# Altium integrated library TI Amplifiers and Linear Difference Amplifier.IntLib: 154 symbols (part 5 of 5)
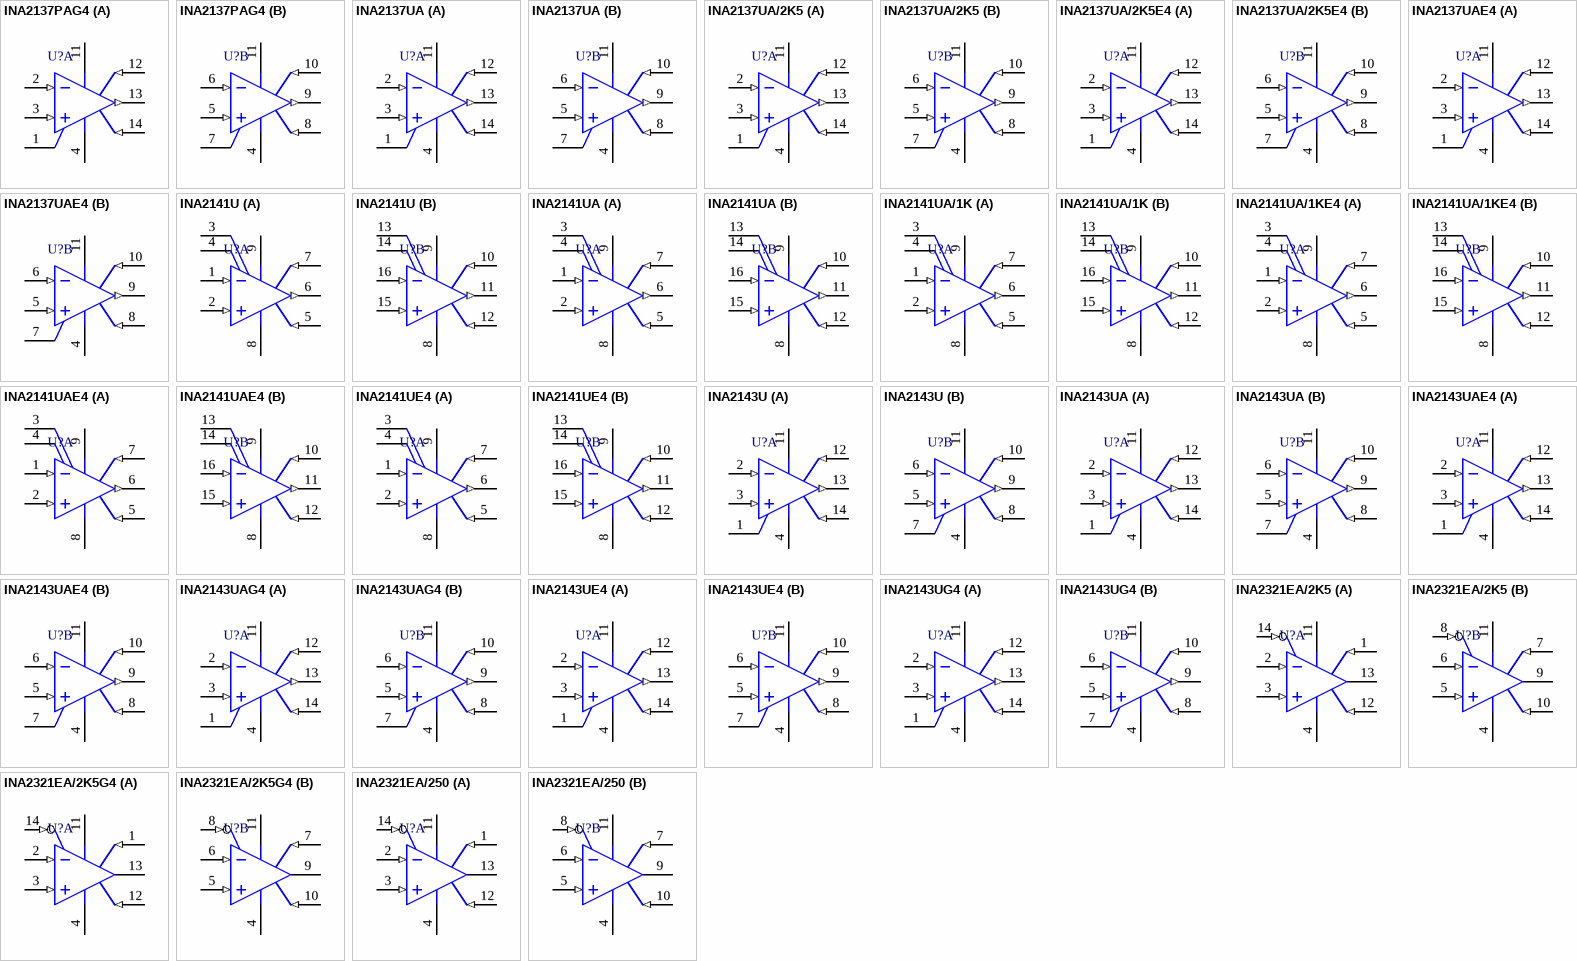
[diagram p9: symbols INA2137PAG4 to INA2321EA/250]

## INA2137PAG4
designator U?
Audio Differential Line Receivers, +/- 6 dB (G=1/2 or 2), -40 to 85 degC, 14-pin DIP (N14), Green (RoHS & no Sb/Br); Manufacturer: Texas Instruments; PartNumber: INA2137PAG4; CMRR(Min)(dB): 74; Gain(V/V): 0.5; Input Offset (+/-)(Max)(uV): 1000; Number of Channels: 2; Slew Rate(Typ)(V/us): 14; SubFamily: Difference Amplifier; Vs(Max)(V): 36; Vs(Min)(V): 8; DatasheetVersion: SBOS072; PackageVersion: 4040049/E, 12/2002; PackageReference: N14; PackageDescription: 14-Pin Plastic In-Line, Body 19.305 x 6.35 mm, Pitch 2.54 mm; Supplier 1: Digi-Key; Supplier Part Number 1: INA2137PAG4-ND; Supplier 2: Newark; Supplier Part Number 2: 18M2398; Supplier 3: Mouser; Supplier Part Number 3: 595-INA2137PAG4; Eco-Plan: Green (RoHS & no Sb/Br); Mounting Technology: Through Hole; Code_JEDEC: MS-001; ComponentLink1Description: Manufacturer URL; ComponentLink1URL: http://www.ti.com/; ComponentLink2Description: Datasheet; ComponentLink2URL: http://www.ti.com/general/docs/lit/getliterature.tsp?genericPartNumber=INA2137&fileType=pdf; ComponentLink3Description: Package Specification; ComponentLink3URL: http://www.ti.com/lit/ml/mpdi002c/mpdi002c.pdf
footprint TI-N14 (DIP, 14-Leads, Body 19.7x6.6mm, Pitch 2.54mm)
pins on every part: 4 V- (power), 11 V+ (power)
part A pins: 1 NC, 2 IN A- (in), 3 IN A+ (in), 12 SENSE A (in), 13 OUT A (out), 14 REF A (in)
part B pins: 5 IN B+ (in), 6 IN B- (in), 7 NC, 8 REF B (in), 9 OUT B (out), 10 SENSE B (in)

## INA2137UA
designator U?
Audio Differential Line Receivers, +/- 6 dB (G=1/2 or 2), -40 to 85 degC, 14-pin SOIC (D14), Green (RoHS & no Sb/Br); Manufacturer: Texas Instruments; PartNumber: INA2137UA; CMRR(Min)(dB): 74; Gain(V/V): 0.5; Input Offset (+/-)(Max)(uV): 1000; Number of Channels: 2; Slew Rate(Typ)(V/us): 14; SubFamily: Difference Amplifier; Vs(Max)(V): 36; Vs(Min)(V): 8; DatasheetVersion: SBOS072; PackageVersion: 4040047-5/M, 06/2011; PackageReference: D14; PackageDescription: 14-Pin Plastic Small Outline, Body 8.65 x 3.9 mm, Pitch 1.27 mm; Supplier 1: Digi-Key; Supplier Part Number 1: INA2137UA-ND; Supplier 2: Newark; Supplier Part Number 2: 35C1749; Supplier 3: Mouser; Supplier Part Number 3: 595-INA2137UA; Eco-Plan: Green (RoHS & no Sb/Br); Mounting Technology: Surface Mount; Code_JEDEC: MS-012; ComponentLink1Description: Manufacturer URL; ComponentLink1URL: http://www.ti.com/; ComponentLink2Description: Datasheet; ComponentLink2URL: http://www.ti.com/general/docs/lit/getliterature.tsp?genericPartNumber=INA2137&fileType=pdf; ComponentLink3Description: Package Specification; ComponentLink3URL: http://www.ti.com/lit/ml/mpds177g/mpds177g.pdf
footprint TI-D14_N (SOIC, 14-Leads, Body 8.75x4mm, Pitch 1.27mm, IPC Medium Density)
footprint TI-D14_L (SOIC, 14-Leads, Body 8.75x4mm, Pitch 1.27mm, IPC High Density)
footprint TI-D14_M (SOIC, 14-Leads, Body 8.75x4mm, Pitch 1.27mm, IPC Low Density)
pins on every part: 4 V- (power), 11 V+ (power)
part A pins: 1 NC, 2 IN A- (in), 3 IN A+ (in), 12 SENSE A (in), 13 OUT A (out), 14 REF A (in)
part B pins: 5 IN B+ (in), 6 IN B- (in), 7 NC, 8 REF B (in), 9 OUT B (out), 10 SENSE B (in)

## INA2137UA/2K5
designator U?
Audio Differential Line Receivers, +/- 6 dB (G=1/2 or 2), -40 to 85 degC, 14-pin SOIC (D14), Green (RoHS & no Sb/Br); Manufacturer: Texas Instruments; PartNumber: INA2137UA/2K5; CMRR(Min)(dB): 74; Gain(V/V): 0.5; Input Offset (+/-)(Max)(uV): 1000; Number of Channels: 2; Slew Rate(Typ)(V/us): 14; SubFamily: Difference Amplifier; Vs(Max)(V): 36; Vs(Min)(V): 8; DatasheetVersion: SBOS072; PackageVersion: 4040047-5/M, 06/2011; PackageReference: D14; PackageDescription: 14-Pin Plastic Small Outline, Body 8.65 x 3.9 mm, Pitch 1.27 mm; Supplier 1: Digi-Key; Supplier Part Number 1: 296-26071-2-ND; Supplier 2: Digi-Key; Supplier Part Number 2: 296-26071-1-ND; Supplier 3: Digi-Key; Supplier Part Number 3: 296-26071-6-ND; Supplier 4: Newark; Supplier Part Number 4: 74C9852; Supplier 5: Mouser; Supplier Part Number 5: 595-INA2137UA/2K5; Eco-Plan: Green (RoHS & no Sb/Br); Mounting Technology: Surface Mount; Code_JEDEC: MS-012; ComponentLink1Description: Manufacturer URL; ComponentLink1URL: http://www.ti.com/; ComponentLink2Description: Datasheet; ComponentLink2URL: http://www.ti.com/general/docs/lit/getliterature.tsp?genericPartNumber=INA2137&fileType=pdf; ComponentLink3Description: Package Specification; ComponentLink3URL: http://www.ti.com/lit/ml/mpds177g/mpds177g.pdf
footprint TI-D14_N (SOIC, 14-Leads, Body 8.75x4mm, Pitch 1.27mm, IPC Medium Density)
footprint TI-D14_L (SOIC, 14-Leads, Body 8.75x4mm, Pitch 1.27mm, IPC High Density)
footprint TI-D14_M (SOIC, 14-Leads, Body 8.75x4mm, Pitch 1.27mm, IPC Low Density)
pins on every part: 4 V- (power), 11 V+ (power)
part A pins: 1 NC, 2 IN A- (in), 3 IN A+ (in), 12 SENSE A (in), 13 OUT A (out), 14 REF A (in)
part B pins: 5 IN B+ (in), 6 IN B- (in), 7 NC, 8 REF B (in), 9 OUT B (out), 10 SENSE B (in)

## INA2137UA/2K5E4
designator U?
Audio Differential Line Receivers, +/- 6 dB (G=1/2 or 2), -40 to 85 degC, 14-pin SOIC (D14), Green (RoHS & no Sb/Br); Manufacturer: Texas Instruments; PartNumber: INA2137UA/2K5E4; CMRR(Min)(dB): 74; Gain(V/V): 0.5; Input Offset (+/-)(Max)(uV): 1000; Number of Channels: 2; Slew Rate(Typ)(V/us): 14; SubFamily: Difference Amplifier; Vs(Max)(V): 36; Vs(Min)(V): 8; DatasheetVersion: SBOS072; PackageVersion: 4040047-5/M, 06/2011; PackageReference: D14; PackageDescription: 14-Pin Plastic Small Outline, Body 8.65 x 3.9 mm, Pitch 1.27 mm; Supplier 1: Digi-Key; Supplier Part Number 1: INA2137UA/2K5E4-ND; Supplier 2: Newark; Supplier Part Number 2: 74K5328; Supplier 3: Mouser; Supplier Part Number 3: 595-INA2137UA/2K5E4; Eco-Plan: Green (RoHS & no Sb/Br); Mounting Technology: Surface Mount; Code_JEDEC: MS-012; ComponentLink1Description: Manufacturer URL; ComponentLink1URL: http://www.ti.com/; ComponentLink2Description: Datasheet; ComponentLink2URL: http://www.ti.com/general/docs/lit/getliterature.tsp?genericPartNumber=INA2137&fileType=pdf; ComponentLink3Description: Package Specification; ComponentLink3URL: http://www.ti.com/lit/ml/mpds177g/mpds177g.pdf
footprint TI-D14_N (SOIC, 14-Leads, Body 8.75x4mm, Pitch 1.27mm, IPC Medium Density)
footprint TI-D14_L (SOIC, 14-Leads, Body 8.75x4mm, Pitch 1.27mm, IPC High Density)
footprint TI-D14_M (SOIC, 14-Leads, Body 8.75x4mm, Pitch 1.27mm, IPC Low Density)
pins on every part: 4 V- (power), 11 V+ (power)
part A pins: 1 NC, 2 IN A- (in), 3 IN A+ (in), 12 SENSE A (in), 13 OUT A (out), 14 REF A (in)
part B pins: 5 IN B+ (in), 6 IN B- (in), 7 NC, 8 REF B (in), 9 OUT B (out), 10 SENSE B (in)

## INA2137UAE4
designator U?
Audio Differential Line Receivers, +/- 6 dB (G=1/2 or 2), -40 to 85 degC, 14-pin SOIC (D14), Green (RoHS & no Sb/Br); Manufacturer: Texas Instruments; PartNumber: INA2137UAE4; CMRR(Min)(dB): 74; Gain(V/V): 0.5; Input Offset (+/-)(Max)(uV): 1000; Number of Channels: 2; Slew Rate(Typ)(V/us): 14; SubFamily: Difference Amplifier; Vs(Max)(V): 36; Vs(Min)(V): 8; DatasheetVersion: SBOS072; PackageVersion: 4040047-5/M, 06/2011; PackageReference: D14; PackageDescription: 14-Pin Plastic Small Outline, Body 8.65 x 3.9 mm, Pitch 1.27 mm; Supplier 1: Digi-Key; Supplier Part Number 1: INA2137UAE4-ND; Supplier 2: Newark; Supplier Part Number 2: 28M6097; Supplier 3: Mouser; Supplier Part Number 3: 595-INA2137UAE4; Eco-Plan: Green (RoHS & no Sb/Br); Mounting Technology: Surface Mount; Code_JEDEC: MS-012; ComponentLink1Description: Manufacturer URL; ComponentLink1URL: http://www.ti.com/; ComponentLink2Description: Datasheet; ComponentLink2URL: http://www.ti.com/general/docs/lit/getliterature.tsp?genericPartNumber=INA2137&fileType=pdf; ComponentLink3Description: Package Specification; ComponentLink3URL: http://www.ti.com/lit/ml/mpds177g/mpds177g.pdf
footprint TI-D14_N (SOIC, 14-Leads, Body 8.75x4mm, Pitch 1.27mm, IPC Medium Density)
footprint TI-D14_L (SOIC, 14-Leads, Body 8.75x4mm, Pitch 1.27mm, IPC High Density)
footprint TI-D14_M (SOIC, 14-Leads, Body 8.75x4mm, Pitch 1.27mm, IPC Low Density)
pins on every part: 4 V- (power), 11 V+ (power)
part A pins: 1 NC, 2 IN A- (in), 3 IN A+ (in), 12 SENSE A (in), 13 OUT A (out), 14 REF A (in)
part B pins: 5 IN B+ (in), 6 IN B- (in), 7 NC, 8 REF B (in), 9 OUT B (out), 10 SENSE B (in)

## INA2141U
designator U?
Dual, Low Power, G = 10, 100 Instrumentation Amplifier, -40 to 125 degC, 16-pin SOIC (DW16), Green (RoHS & no Sb/Br); Manufacturer: Texas Instruments; PartNumber: INA2141U; CMRR(Min)(dB): 117; Dual Supply: TRUE; Gain(V/V): 10, 100; Input Offset (+/-)(Max)(uV): 50; Number of Channels: 2; Slew Rate(Typ)(V/us): 4; SubFamily: Difference Amplifier; Vs(Max)(V): 36; Vs(Min)(V): 4.5; DatasheetVersion: SBOS036; PackageVersion: 4040000-2/G, 01/2011; PackageReference: DW16; PackageDescription: 16-Pin Plastic Small Outline, Body 10.30 x 7.50 mm, Pitch 1.27 mm; Supplier 1: Digi-Key; Supplier Part Number 1: INA2141U-ND; Supplier 2: Newark; Supplier Part Number 2: 74C9853; Supplier 3: Mouser; Supplier Part Number 3: 595-INA2141U; Eco-Plan: Green (RoHS & no Sb/Br); Mounting Technology: Surface Mount; Code_JEDEC: MS-013; ComponentLink1Description: Manufacturer URL; ComponentLink1URL: http://www.ti.com/; ComponentLink2Description: Datasheet; ComponentLink2URL: http://www.ti.com/general/docs/lit/getliterature.tsp?genericPartNumber=INA2141&fileType=pdf; ComponentLink3Description: Package Specification; ComponentLink3URL: http://www.ti.com/litv/pdf/msoi003g
footprint TI-DW16_N (SOIC, 16-Leads, Body 10.5x7.6mm, Pitch 1.27mm, IPC Medium Density)
footprint TI-DW16_L (SOIC, 16-Leads, Body 10.5x7.6mm, Pitch 1.27mm, IPC High Density)
footprint TI-DW16_M (SOIC, 16-Leads, Body 10.5x7.6mm, Pitch 1.27mm, IPC Low Density)
pins on every part: 8 V- (power), 9 V+ (power)
part A pins: 1 VINA- (in), 2 VINA+ (in), 3 JA, 4 JA, 5 REFA (in), 6 VOA (out), 7 SENSEA (in)
part B pins: 10 SENSEB (in), 11 VOB (out), 12 REFB (in), 13 JB, 14 JB, 15 VINB+ (in), 16 VINB- (in)

## INA2141UA
designator U?
Dual, Low Power, G = 10, 100 Instrumentation Amplifier, -40 to 125 degC, 16-pin SOIC (DW16), Green (RoHS & no Sb/Br); Manufacturer: Texas Instruments; PartNumber: INA2141UA; CMRR(Min)(dB): 110; Dual Supply: TRUE; Gain(V/V): 10, 100; Input Offset (+/-)(Max)(uV): 125; Number of Channels: 2; Slew Rate(Typ)(V/us): 4; SubFamily: Difference Amplifier; Vs(Max)(V): 36; Vs(Min)(V): 4.5; DatasheetVersion: SBOS036; PackageVersion: 4040000-2/G, 01/2011; PackageReference: DW16; PackageDescription: 16-Pin Plastic Small Outline, Body 10.30 x 7.50 mm, Pitch 1.27 mm; Supplier 1: Digi-Key; Supplier Part Number 1: INA2141UA-ND; Supplier 2: Mouser; Supplier Part Number 2: 595-INA2141UA; Eco-Plan: Green (RoHS & no Sb/Br); Mounting Technology: Surface Mount; Code_JEDEC: MS-013; ComponentLink1Description: Manufacturer URL; ComponentLink1URL: http://www.ti.com/; ComponentLink2Description: Datasheet; ComponentLink2URL: http://www.ti.com/general/docs/lit/getliterature.tsp?genericPartNumber=INA2141&fileType=pdf; ComponentLink3Description: Package Specification; ComponentLink3URL: http://www.ti.com/litv/pdf/msoi003g
footprint TI-DW16_N (SOIC, 16-Leads, Body 10.5x7.6mm, Pitch 1.27mm, IPC Medium Density)
footprint TI-DW16_L (SOIC, 16-Leads, Body 10.5x7.6mm, Pitch 1.27mm, IPC High Density)
footprint TI-DW16_M (SOIC, 16-Leads, Body 10.5x7.6mm, Pitch 1.27mm, IPC Low Density)
pins on every part: 8 V- (power), 9 V+ (power)
part A pins: 1 VINA- (in), 2 VINA+ (in), 3 JA, 4 JA, 5 REFA (in), 6 VOA (out), 7 SENSEA (in)
part B pins: 10 SENSEB (in), 11 VOB (out), 12 REFB (in), 13 JB, 14 JB, 15 VINB+ (in), 16 VINB- (in)

## INA2141UA/1K
designator U?
Dual, Low Power, G = 10, 100 Instrumentation Amplifier, -40 to 125 degC, 16-pin SOIC (DW16), Green (RoHS & no Sb/Br); Manufacturer: Texas Instruments; PartNumber: INA2141UA/1K; CMRR(Min)(dB): 110; Dual Supply: TRUE; Gain(V/V): 10, 100; Input Offset (+/-)(Max)(uV): 125; Number of Channels: 2; Slew Rate(Typ)(V/us): 4; SubFamily: Difference Amplifier; Vs(Max)(V): 36; Vs(Min)(V): 4.5; DatasheetVersion: SBOS036; PackageVersion: 4040000-2/G, 01/2011; PackageReference: DW16; PackageDescription: 16-Pin Plastic Small Outline, Body 10.30 x 7.50 mm, Pitch 1.27 mm; Supplier 1: Digi-Key; Supplier Part Number 1: INA2141UA/1K-ND; Supplier 2: Mouser; Supplier Part Number 2: 595-INA2141UA/1K; Eco-Plan: Green (RoHS & no Sb/Br); Mounting Technology: Surface Mount; Code_JEDEC: MS-013; ComponentLink1Description: Manufacturer URL; ComponentLink1URL: http://www.ti.com/; ComponentLink2Description: Datasheet; ComponentLink2URL: http://www.ti.com/general/docs/lit/getliterature.tsp?genericPartNumber=INA2141&fileType=pdf; ComponentLink3Description: Package Specification; ComponentLink3URL: http://www.ti.com/litv/pdf/msoi003g
footprint TI-DW16_N (SOIC, 16-Leads, Body 10.5x7.6mm, Pitch 1.27mm, IPC Medium Density)
footprint TI-DW16_L (SOIC, 16-Leads, Body 10.5x7.6mm, Pitch 1.27mm, IPC High Density)
footprint TI-DW16_M (SOIC, 16-Leads, Body 10.5x7.6mm, Pitch 1.27mm, IPC Low Density)
pins on every part: 8 V- (power), 9 V+ (power)
part A pins: 1 VINA- (in), 2 VINA+ (in), 3 JA, 4 JA, 5 REFA (in), 6 VOA (out), 7 SENSEA (in)
part B pins: 10 SENSEB (in), 11 VOB (out), 12 REFB (in), 13 JB, 14 JB, 15 VINB+ (in), 16 VINB- (in)

## INA2141UA/1KE4
designator U?
Dual, Low Power, G = 10, 100 Instrumentation Amplifier, -40 to 125 degC, 16-pin SOIC (DW16), Green (RoHS & no Sb/Br); Manufacturer: Texas Instruments; PartNumber: INA2141UA/1KE4; CMRR(Min)(dB): 110; Dual Supply: TRUE; Gain(V/V): 10, 100; Input Offset (+/-)(Max)(uV): 125; Number of Channels: 2; Slew Rate(Typ)(V/us): 4; SubFamily: Difference Amplifier; Vs(Max)(V): 36; Vs(Min)(V): 4.5; DatasheetVersion: SBOS036; PackageVersion: 4040000-2/G, 01/2011; PackageReference: DW16; PackageDescription: 16-Pin Plastic Small Outline, Body 10.30 x 7.50 mm, Pitch 1.27 mm; Supplier 1: Digi-Key; Supplier Part Number 1: INA2141UA/1KE4-ND; Supplier 2: Mouser; Supplier Part Number 2: 595-INA2141UA/1KE4; Eco-Plan: Green (RoHS & no Sb/Br); Mounting Technology: Surface Mount; Code_JEDEC: MS-013; ComponentLink1Description: Manufacturer URL; ComponentLink1URL: http://www.ti.com/; ComponentLink2Description: Datasheet; ComponentLink2URL: http://www.ti.com/general/docs/lit/getliterature.tsp?genericPartNumber=INA2141&fileType=pdf; ComponentLink3Description: Package Specification; ComponentLink3URL: http://www.ti.com/litv/pdf/msoi003g
footprint TI-DW16_N (SOIC, 16-Leads, Body 10.5x7.6mm, Pitch 1.27mm, IPC Medium Density)
footprint TI-DW16_L (SOIC, 16-Leads, Body 10.5x7.6mm, Pitch 1.27mm, IPC High Density)
footprint TI-DW16_M (SOIC, 16-Leads, Body 10.5x7.6mm, Pitch 1.27mm, IPC Low Density)
pins on every part: 8 V- (power), 9 V+ (power)
part A pins: 1 VINA- (in), 2 VINA+ (in), 3 JA, 4 JA, 5 REFA (in), 6 VOA (out), 7 SENSEA (in)
part B pins: 10 SENSEB (in), 11 VOB (out), 12 REFB (in), 13 JB, 14 JB, 15 VINB+ (in), 16 VINB- (in)

## INA2141UAE4
designator U?
Dual, Low Power, G = 10, 100 Instrumentation Amplifier, -40 to 125 degC, 16-pin SOIC (DW16), Green (RoHS & no Sb/Br); Manufacturer: Texas Instruments; PartNumber: INA2141UAE4; CMRR(Min)(dB): 110; Dual Supply: TRUE; Gain(V/V): 10, 100; Input Offset (+/-)(Max)(uV): 125; Number of Channels: 2; Slew Rate(Typ)(V/us): 4; SubFamily: Difference Amplifier; Vs(Max)(V): 36; Vs(Min)(V): 4.5; DatasheetVersion: SBOS036; PackageVersion: 4040000-2/G, 01/2011; PackageReference: DW16; PackageDescription: 16-Pin Plastic Small Outline, Body 10.30 x 7.50 mm, Pitch 1.27 mm; Supplier 1: Digi-Key; Supplier Part Number 1: INA2141UAE4-ND; Supplier 2: Mouser; Supplier Part Number 2: 595-INA2141UAE4; Eco-Plan: Green (RoHS & no Sb/Br); Mounting Technology: Surface Mount; Code_JEDEC: MS-013; ComponentLink1Description: Manufacturer URL; ComponentLink1URL: http://www.ti.com/; ComponentLink2Description: Datasheet; ComponentLink2URL: http://www.ti.com/general/docs/lit/getliterature.tsp?genericPartNumber=INA2141&fileType=pdf; ComponentLink3Description: Package Specification; ComponentLink3URL: http://www.ti.com/litv/pdf/msoi003g
footprint TI-DW16_N (SOIC, 16-Leads, Body 10.5x7.6mm, Pitch 1.27mm, IPC Medium Density)
footprint TI-DW16_L (SOIC, 16-Leads, Body 10.5x7.6mm, Pitch 1.27mm, IPC High Density)
footprint TI-DW16_M (SOIC, 16-Leads, Body 10.5x7.6mm, Pitch 1.27mm, IPC Low Density)
pins on every part: 8 V- (power), 9 V+ (power)
part A pins: 1 VINA- (in), 2 VINA+ (in), 3 JA, 4 JA, 5 REFA (in), 6 VOA (out), 7 SENSEA (in)
part B pins: 10 SENSEB (in), 11 VOB (out), 12 REFB (in), 13 JB, 14 JB, 15 VINB+ (in), 16 VINB- (in)

## INA2141UE4
designator U?
Dual, Low Power, G = 10, 100 Instrumentation Amplifier, -40 to 125 degC, 16-pin SOIC (DW16), Green (RoHS & no Sb/Br); Manufacturer: Texas Instruments; PartNumber: INA2141UE4; CMRR(Min)(dB): 117; Dual Supply: TRUE; Gain(V/V): 10, 100; Input Offset (+/-)(Max)(uV): 50; Number of Channels: 2; Slew Rate(Typ)(V/us): 4; SubFamily: Difference Amplifier; Vs(Max)(V): 36; Vs(Min)(V): 4.5; DatasheetVersion: SBOS036; PackageVersion: 4040000-2/G, 01/2011; PackageReference: DW16; PackageDescription: 16-Pin Plastic Small Outline, Body 10.30 x 7.50 mm, Pitch 1.27 mm; Supplier 1: Digi-Key; Supplier Part Number 1: INA2141UE4-ND; Supplier 2: Newark; Supplier Part Number 2: 28M6100; Supplier 3: Mouser; Supplier Part Number 3: 595-INA2141UE4; Eco-Plan: Green (RoHS & no Sb/Br); Mounting Technology: Surface Mount; Code_JEDEC: MS-013; ComponentLink1Description: Manufacturer URL; ComponentLink1URL: http://www.ti.com/; ComponentLink2Description: Datasheet; ComponentLink2URL: http://www.ti.com/general/docs/lit/getliterature.tsp?genericPartNumber=INA2141&fileType=pdf; ComponentLink3Description: Package Specification; ComponentLink3URL: http://www.ti.com/litv/pdf/msoi003g
footprint TI-DW16_N (SOIC, 16-Leads, Body 10.5x7.6mm, Pitch 1.27mm, IPC Medium Density)
footprint TI-DW16_L (SOIC, 16-Leads, Body 10.5x7.6mm, Pitch 1.27mm, IPC High Density)
footprint TI-DW16_M (SOIC, 16-Leads, Body 10.5x7.6mm, Pitch 1.27mm, IPC Low Density)
pins on every part: 8 V- (power), 9 V+ (power)
part A pins: 1 VINA- (in), 2 VINA+ (in), 3 JA, 4 JA, 5 REFA (in), 6 VOA (out), 7 SENSEA (in)
part B pins: 10 SENSEB (in), 11 VOB (out), 12 REFB (in), 13 JB, 14 JB, 15 VINB+ (in), 16 VINB- (in)

## INA2143U
designator U?
High-Speed, Precision, G = 10 or G = 0.1 Difference Amplifier, -40 to 85 degC, 14-pin SOIC (D14), Green (RoHS & no Sb/Br); Manufacturer: Texas Instruments; PartNumber: INA2143U; CMRR(Min)(dB): 86; Gain(V/V): 10; Input Offset (+/-)(Max)(uV): 250; Number of Channels: 2; Slew Rate(Typ)(V/us): 5; Vs(Max)(V): 36; Vs(Min)(V): 4.5; DatasheetVersion: SBOS116; PackageVersion: 4040047-5/M, 06/2011; PackageReference: D14; PackageDescription: 14-Pin Plastic Small Outline, Body 8.65 x 3.9 mm, Pitch 1.27 mm; Supplier 1: Digi-Key; Supplier Part Number 1: INA2143U-ND; Supplier 2: Newark; Supplier Part Number 2: 74C9855; Supplier 3: Mouser; Supplier Part Number 3: 595-INA2143U; Eco-Plan: Green (RoHS & no Sb/Br); SubFamily: Difference Amplifier; Mounting Technology: Surface Mount; Code_JEDEC: MS-012; ComponentLink1Description: Manufacturer URL; ComponentLink1URL: http://www.ti.com/; ComponentLink2Description: Datasheet; ComponentLink2URL: http://www.ti.com/general/docs/lit/getliterature.tsp?genericPartNumber=INA2143&fileType=pdf; ComponentLink3Description: Package Specification; ComponentLink3URL: http://www.ti.com/lit/ml/mpds177g/mpds177g.pdf
footprint TI-D14_N (SOIC, 14-Leads, Body 8.75x4mm, Pitch 1.27mm, IPC Medium Density)
footprint TI-D14_L (SOIC, 14-Leads, Body 8.75x4mm, Pitch 1.27mm, IPC High Density)
footprint TI-D14_M (SOIC, 14-Leads, Body 8.75x4mm, Pitch 1.27mm, IPC Low Density)
pins on every part: 4 V- (power), 11 V+ (power)
part A pins: 1 NC, 2 IN A- (in), 3 IN A+ (in), 12 SENSE A (in), 13 OUT A (out), 14 REF A (in)
part B pins: 5 IN B+ (in), 6 IN B- (in), 7 NC, 8 REF B (in), 9 OUT B (out), 10 SENSE B (in)

## INA2143UA
designator U?
High-Speed, Precision, G = 10 or G = 0.1 Difference Amplifier, -40 to 85 degC, 14-pin SOIC (D14), Green (RoHS & no Sb/Br); Manufacturer: Texas Instruments; PartNumber: INA2143UA; CMRR(Min)(dB): 80; Gain(V/V): 10; Input Offset (+/-)(Max)(uV): 500; Number of Channels: 2; Slew Rate(Typ)(V/us): 5; Vs(Max)(V): 36; Vs(Min)(V): 4.5; DatasheetVersion: SBOS116; PackageVersion: 4040047-5/M, 06/2011; PackageReference: D14; PackageDescription: 14-Pin Plastic Small Outline, Body 8.65 x 3.9 mm, Pitch 1.27 mm; Supplier 1: Digi-Key; Supplier Part Number 1: INA2143UA-ND; Supplier 2: Newark; Supplier Part Number 2: 74C9857; Supplier 3: Mouser; Supplier Part Number 3: 595-INA2143UA; Eco-Plan: Green (RoHS & no Sb/Br); SubFamily: Difference Amplifier; Mounting Technology: Surface Mount; Code_JEDEC: MS-012; ComponentLink1Description: Manufacturer URL; ComponentLink1URL: http://www.ti.com/; ComponentLink2Description: Datasheet; ComponentLink2URL: http://www.ti.com/general/docs/lit/getliterature.tsp?genericPartNumber=INA2143&fileType=pdf; ComponentLink3Description: Package Specification; ComponentLink3URL: http://www.ti.com/lit/ml/mpds177g/mpds177g.pdf
footprint TI-D14_N (SOIC, 14-Leads, Body 8.75x4mm, Pitch 1.27mm, IPC Medium Density)
footprint TI-D14_L (SOIC, 14-Leads, Body 8.75x4mm, Pitch 1.27mm, IPC High Density)
footprint TI-D14_M (SOIC, 14-Leads, Body 8.75x4mm, Pitch 1.27mm, IPC Low Density)
pins on every part: 4 V- (power), 11 V+ (power)
part A pins: 1 NC, 2 IN A- (in), 3 IN A+ (in), 12 SENSE A (in), 13 OUT A (out), 14 REF A (in)
part B pins: 5 IN B+ (in), 6 IN B- (in), 7 NC, 8 REF B (in), 9 OUT B (out), 10 SENSE B (in)

## INA2143UAE4
designator U?
High-Speed, Precision, G = 10 or G = 0.1 Difference Amplifier, -40 to 85 degC, 14-pin SOIC (D14), Green (RoHS & no Sb/Br); Manufacturer: Texas Instruments; PartNumber: INA2143UAE4; CMRR(Min)(dB): 80; Gain(V/V): 10; Input Offset (+/-)(Max)(uV): 500; Number of Channels: 2; Slew Rate(Typ)(V/us): 5; Vs(Max)(V): 36; Vs(Min)(V): 4.5; DatasheetVersion: SBOS116; PackageVersion: 4040047-5/M, 06/2011; PackageReference: D14; PackageDescription: 14-Pin Plastic Small Outline, Body 8.65 x 3.9 mm, Pitch 1.27 mm; Supplier 1: Digi-Key; Supplier Part Number 1: INA2143UAE4-ND; Supplier 2: Newark; Supplier Part Number 2: 61K0051; Supplier 3: Mouser; Supplier Part Number 3: 595-INA2143UAE4; Eco-Plan: Green (RoHS & no Sb/Br); SubFamily: Difference Amplifier; Mounting Technology: Surface Mount; Code_JEDEC: MS-012; ComponentLink1Description: Manufacturer URL; ComponentLink1URL: http://www.ti.com/; ComponentLink2Description: Datasheet; ComponentLink2URL: http://www.ti.com/general/docs/lit/getliterature.tsp?genericPartNumber=INA2143&fileType=pdf; ComponentLink3Description: Package Specification; ComponentLink3URL: http://www.ti.com/lit/ml/mpds177g/mpds177g.pdf
footprint TI-D14_N (SOIC, 14-Leads, Body 8.75x4mm, Pitch 1.27mm, IPC Medium Density)
footprint TI-D14_L (SOIC, 14-Leads, Body 8.75x4mm, Pitch 1.27mm, IPC High Density)
footprint TI-D14_M (SOIC, 14-Leads, Body 8.75x4mm, Pitch 1.27mm, IPC Low Density)
pins on every part: 4 V- (power), 11 V+ (power)
part A pins: 1 NC, 2 IN A- (in), 3 IN A+ (in), 12 SENSE A (in), 13 OUT A (out), 14 REF A (in)
part B pins: 5 IN B+ (in), 6 IN B- (in), 7 NC, 8 REF B (in), 9 OUT B (out), 10 SENSE B (in)

## INA2143UAG4
designator U?
High-Speed, Precision, G = 10 or G = 0.1 Difference Amplifier, -40 to 85 degC, 14-pin SOIC (D14), Green (RoHS & no Sb/Br); Manufacturer: Texas Instruments; PartNumber: INA2143UAG4; CMRR(Min)(dB): 80; Gain(V/V): 10; Input Offset (+/-)(Max)(uV): 500; Number of Channels: 2; Slew Rate(Typ)(V/us): 5; Vs(Max)(V): 36; Vs(Min)(V): 4.5; DatasheetVersion: SBOS116; PackageVersion: 4040047-5/M, 06/2011; PackageReference: D14; PackageDescription: 14-Pin Plastic Small Outline, Body 8.65 x 3.9 mm, Pitch 1.27 mm; Supplier 1: Digi-Key; Supplier Part Number 1: INA2143UAG4-ND; Supplier 2: Mouser; Supplier Part Number 2: 595-INA2143UAG4; Eco-Plan: Green (RoHS & no Sb/Br); SubFamily: Difference Amplifier; Mounting Technology: Surface Mount; Code_JEDEC: MS-012; ComponentLink1Description: Manufacturer URL; ComponentLink1URL: http://www.ti.com/; ComponentLink2Description: Datasheet; ComponentLink2URL: http://www.ti.com/general/docs/lit/getliterature.tsp?genericPartNumber=INA2143&fileType=pdf; ComponentLink3Description: Package Specification; ComponentLink3URL: http://www.ti.com/lit/ml/mpds177g/mpds177g.pdf
footprint TI-D14_N (SOIC, 14-Leads, Body 8.75x4mm, Pitch 1.27mm, IPC Medium Density)
footprint TI-D14_L (SOIC, 14-Leads, Body 8.75x4mm, Pitch 1.27mm, IPC High Density)
footprint TI-D14_M (SOIC, 14-Leads, Body 8.75x4mm, Pitch 1.27mm, IPC Low Density)
pins on every part: 4 V- (power), 11 V+ (power)
part A pins: 1 NC, 2 IN A- (in), 3 IN A+ (in), 12 SENSE A (in), 13 OUT A (out), 14 REF A (in)
part B pins: 5 IN B+ (in), 6 IN B- (in), 7 NC, 8 REF B (in), 9 OUT B (out), 10 SENSE B (in)

## INA2143UE4
designator U?
High-Speed, Precision, G = 10 or G = 0.1 Difference Amplifier, -40 to 85 degC, 14-pin SOIC (D14), Green (RoHS & no Sb/Br); Manufacturer: Texas Instruments; PartNumber: INA2143UE4; CMRR(Min)(dB): 86; Gain(V/V): 10; Input Offset (+/-)(Max)(uV): 250; Number of Channels: 2; Slew Rate(Typ)(V/us): 5; Vs(Max)(V): 36; Vs(Min)(V): 4.5; DatasheetVersion: SBOS116; PackageVersion: 4040047-5/M, 06/2011; PackageReference: D14; PackageDescription: 14-Pin Plastic Small Outline, Body 8.65 x 3.9 mm, Pitch 1.27 mm; Supplier 1: Digi-Key; Supplier Part Number 1: INA2143UE4-ND; Supplier 2: Newark; Supplier Part Number 2: 61K0052; Supplier 3: Mouser; Supplier Part Number 3: 595-INA2143UE4; Eco-Plan: Green (RoHS & no Sb/Br); SubFamily: Difference Amplifier; Mounting Technology: Surface Mount; Code_JEDEC: MS-012; ComponentLink1Description: Manufacturer URL; ComponentLink1URL: http://www.ti.com/; ComponentLink2Description: Datasheet; ComponentLink2URL: http://www.ti.com/general/docs/lit/getliterature.tsp?genericPartNumber=INA2143&fileType=pdf; ComponentLink3Description: Package Specification; ComponentLink3URL: http://www.ti.com/lit/ml/mpds177g/mpds177g.pdf
footprint TI-D14_N (SOIC, 14-Leads, Body 8.75x4mm, Pitch 1.27mm, IPC Medium Density)
footprint TI-D14_L (SOIC, 14-Leads, Body 8.75x4mm, Pitch 1.27mm, IPC High Density)
footprint TI-D14_M (SOIC, 14-Leads, Body 8.75x4mm, Pitch 1.27mm, IPC Low Density)
pins on every part: 4 V- (power), 11 V+ (power)
part A pins: 1 NC, 2 IN A- (in), 3 IN A+ (in), 12 SENSE A (in), 13 OUT A (out), 14 REF A (in)
part B pins: 5 IN B+ (in), 6 IN B- (in), 7 NC, 8 REF B (in), 9 OUT B (out), 10 SENSE B (in)

## INA2143UG4
designator U?
High-Speed, Precision, G = 10 or G = 0.1 Difference Amplifier, -40 to 85 degC, 14-pin SOIC (D14), Green (RoHS & no Sb/Br); Manufacturer: Texas Instruments; PartNumber: INA2143UG4; CMRR(Min)(dB): 86; Gain(V/V): 10; Input Offset (+/-)(Max)(uV): 250; Number of Channels: 2; Slew Rate(Typ)(V/us): 5; Vs(Max)(V): 36; Vs(Min)(V): 4.5; DatasheetVersion: SBOS116; PackageVersion: 4040047-5/M, 06/2011; PackageReference: D14; PackageDescription: 14-Pin Plastic Small Outline, Body 8.65 x 3.9 mm, Pitch 1.27 mm; Supplier 1: Digi-Key; Supplier Part Number 1: INA2143UG4-ND; Supplier 2: Mouser; Supplier Part Number 2: 595-INA2143UG4; Eco-Plan: Green (RoHS & no Sb/Br); SubFamily: Difference Amplifier; Mounting Technology: Surface Mount; Code_JEDEC: MS-012; ComponentLink1Description: Manufacturer URL; ComponentLink1URL: http://www.ti.com/; ComponentLink2Description: Datasheet; ComponentLink2URL: http://www.ti.com/general/docs/lit/getliterature.tsp?genericPartNumber=INA2143&fileType=pdf; ComponentLink3Description: Package Specification; ComponentLink3URL: http://www.ti.com/lit/ml/mpds177g/mpds177g.pdf
footprint TI-D14_N (SOIC, 14-Leads, Body 8.75x4mm, Pitch 1.27mm, IPC Medium Density)
footprint TI-D14_L (SOIC, 14-Leads, Body 8.75x4mm, Pitch 1.27mm, IPC High Density)
footprint TI-D14_M (SOIC, 14-Leads, Body 8.75x4mm, Pitch 1.27mm, IPC Low Density)
pins on every part: 4 V- (power), 11 V+ (power)
part A pins: 1 NC, 2 IN A- (in), 3 IN A+ (in), 12 SENSE A (in), 13 OUT A (out), 14 REF A (in)
part B pins: 5 IN B+ (in), 6 IN B- (in), 7 NC, 8 REF B (in), 9 OUT B (out), 10 SENSE B (in)

## INA2321EA/2K5
designator U?
Micropower Single-Supply CMOS Instrumentation Amplifier, -55 to 125 degC, 14-pin SOP (PW14), Green (RoHS & no Sb/Br); Manufacturer: Texas Instruments; PartNumber: INA2321EA/2K5; CMRR(Min)(dB): 80; Gain(V/V): 5 to 1000; Input Offset (+/-)(Max)(uV): 1000; Number of Channels: 2; Slew Rate(Typ)(V/us): 0.4; SubFamily: Difference Amplifier; Vs(Max)(V): 5.5; Vs(Min)(V): 2.7; DatasheetVersion: SBOS168D; PackageVersion: 4040064-3/G, 02/2011; PackageReference: PW14; PackageDescription: 14-Pin Plastic Small Outline, Body 5 x 4.4 mm, Pitch 0.65 mm; Supplier 1: Digi-Key; Supplier Part Number 1: INA2321EA/2K5-ND; Supplier 2: Newark; Supplier Part Number 2: 74C9860; Supplier 3: Mouser; Supplier Part Number 3: 595-INA2321EA/2K5; Eco-Plan: Green (RoHS & no Sb/Br); Mounting Technology: Surface Mount; Code_JEDEC: MO-153; ComponentLink1Description: Manufacturer URL; ComponentLink1URL: http://www.ti.com/; ComponentLink2Description: Datasheet; ComponentLink2URL: http://www.ti.com/general/docs/lit/getliterature.tsp?genericPartNumber=INA2321&fileType=pdf; ComponentLink3Description: Package Specification; ComponentLink3URL: http://www.ti.com/litv/pdf/mpds360
footprint TI-PW14_N (SOP, 14-Leads, Body 5.1x4.5mm, Pitch 0.65mm, IPC Medium Density)
footprint TI-PW14_L (SOP, 14-Leads, Body 5.1x4.5mm, Pitch 0.65mm, IPC High Density)
footprint TI-PW14_M (SOP, 14-Leads, Body 5.1x4.5mm, Pitch 0.65mm, IPC Low Density)
pins on every part: 4 V- (power), 11 V+ (power)
part A pins: 1 RGA (in), 2 VINA- (in), 3 VINA+ (in), 12 REFA (in), 13 VOUTA (hiz), 14 SHUTDOWN A (in)
part B pins: 5 VINB+ (in), 6 VINB- (in), 7 RGB (in), 8 SHUTDOWN B (in), 9 VOUTB (hiz), 10 REFB (in)

## INA2321EA/2K5G4
designator U?
Micropower Single-Supply CMOS Instrumentation Amplifier, -55 to 125 degC, 14-pin SOP (PW14), Green (RoHS & no Sb/Br); Manufacturer: Texas Instruments; PartNumber: INA2321EA/2K5G4; CMRR(Min)(dB): 80; Gain(V/V): 5 to 1000; Input Offset (+/-)(Max)(uV): 1000; Number of Channels: 2; Slew Rate(Typ)(V/us): 0.4; SubFamily: Difference Amplifier; Vs(Max)(V): 5.5; Vs(Min)(V): 2.7; DatasheetVersion: SBOS168D; PackageVersion: 4040064-3/G, 02/2011; PackageReference: PW14; PackageDescription: 14-Pin Plastic Small Outline, Body 5 x 4.4 mm, Pitch 0.65 mm; Supplier 1: Digi-Key; Supplier Part Number 1: INA2321EA/2K5G4-ND; Supplier 2: Newark; Supplier Part Number 2: 33K5164; Supplier 3: Mouser; Supplier Part Number 3: 595-INA2321EA/2K5G4; Eco-Plan: Green (RoHS & no Sb/Br); Mounting Technology: Surface Mount; Code_JEDEC: MO-153; ComponentLink1Description: Manufacturer URL; ComponentLink1URL: http://www.ti.com/; ComponentLink2Description: Datasheet; ComponentLink2URL: http://www.ti.com/general/docs/lit/getliterature.tsp?genericPartNumber=INA2321&fileType=pdf; ComponentLink3Description: Package Specification; ComponentLink3URL: http://www.ti.com/litv/pdf/mpds360
footprint TI-PW14_N (SOP, 14-Leads, Body 5.1x4.5mm, Pitch 0.65mm, IPC Medium Density)
footprint TI-PW14_L (SOP, 14-Leads, Body 5.1x4.5mm, Pitch 0.65mm, IPC High Density)
footprint TI-PW14_M (SOP, 14-Leads, Body 5.1x4.5mm, Pitch 0.65mm, IPC Low Density)
pins on every part: 4 V- (power), 11 V+ (power)
part A pins: 1 RGA (in), 2 VINA- (in), 3 VINA+ (in), 12 REFA (in), 13 VOUTA (hiz), 14 SHUTDOWN A (in)
part B pins: 5 VINB+ (in), 6 VINB- (in), 7 RGB (in), 8 SHUTDOWN B (in), 9 VOUTB (hiz), 10 REFB (in)

## INA2321EA/250
designator U?
Micropower Single-Supply CMOS Instrumentation Amplifier, -55 to 125 degC, 14-pin SOP (PW14), Green (RoHS & no Sb/Br); Manufacturer: Texas Instruments; PartNumber: INA2321EA/250; CMRR(Min)(dB): 80; Gain(V/V): 5 to 1000; Input Offset (+/-)(Max)(uV): 1000; Number of Channels: 2; Slew Rate(Typ)(V/us): 0.4; SubFamily: Difference Amplifier; Vs(Max)(V): 5.5; Vs(Min)(V): 2.7; DatasheetVersion: SBOS168D; PackageVersion: 4040064-3/G, 02/2011; PackageReference: PW14; PackageDescription: 14-Pin Plastic Small Outline, Body 5 x 4.4 mm, Pitch 0.65 mm; Supplier 1: Digi-Key; Supplier Part Number 1: INA2321EATR-ND; Supplier 2: Digi-Key; Supplier Part Number 2: INA2321EACT-ND; Supplier 3: Digi-Key; Supplier Part Number 3: INA2321EADKR-ND; Supplier 4: Newark; Supplier Part Number 4: 74C9861; Supplier 5: Mouser; Supplier Part Number 5: 595-INA2321EA/250; Eco-Plan: Green (RoHS & no Sb/Br); Mounting Technology: Surface Mount; Code_JEDEC: MO-153; ComponentLink1Description: Manufacturer URL; ComponentLink1URL: http://www.ti.com/; ComponentLink2Description: Datasheet; ComponentLink2URL: http://www.ti.com/general/docs/lit/getliterature.tsp?genericPartNumber=INA2321&fileType=pdf; ComponentLink3Description: Package Specification; ComponentLink3URL: http://www.ti.com/litv/pdf/mpds360
footprint TI-PW14_N (SOP, 14-Leads, Body 5.1x4.5mm, Pitch 0.65mm, IPC Medium Density)
footprint TI-PW14_L (SOP, 14-Leads, Body 5.1x4.5mm, Pitch 0.65mm, IPC High Density)
footprint TI-PW14_M (SOP, 14-Leads, Body 5.1x4.5mm, Pitch 0.65mm, IPC Low Density)
pins on every part: 4 V- (power), 11 V+ (power)
part A pins: 1 RGA (in), 2 VINA- (in), 3 VINA+ (in), 12 REFA (in), 13 VOUTA (hiz), 14 SHUTDOWN A (in)
part B pins: 5 VINB+ (in), 6 VINB- (in), 7 RGB (in), 8 SHUTDOWN B (in), 9 VOUTB (hiz), 10 REFB (in)

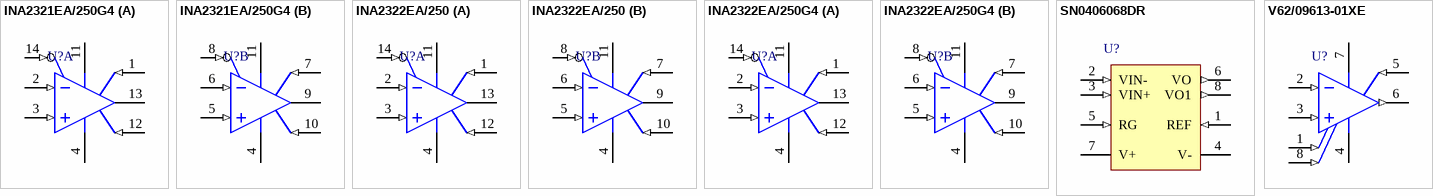
[diagram p5: symbols INA2321EA/250G4 to V62/09613-01XE]

## INA2321EA/250G4
designator U?
Micropower Single-Supply CMOS Instrumentation Amplifier, -55 to 125 degC, 14-pin SOP (PW14), Green (RoHS & no Sb/Br); Manufacturer: Texas Instruments; PartNumber: INA2321EA/250G4; CMRR(Min)(dB): 80; Gain(V/V): 5 to 1000; Input Offset (+/-)(Max)(uV): 1000; Number of Channels: 2; Slew Rate(Typ)(V/us): 0.4; SubFamily: Difference Amplifier; Vs(Max)(V): 5.5; Vs(Min)(V): 2.7; DatasheetVersion: SBOS168D; PackageVersion: 4040064-3/G, 02/2011; PackageReference: PW14; PackageDescription: 14-Pin Plastic Small Outline, Body 5 x 4.4 mm, Pitch 0.65 mm; Supplier 1: Digi-Key; Supplier Part Number 1: INA2321EA/250G4-ND; Supplier 2: Newark; Supplier Part Number 2: 33K5165; Supplier 3: Mouser; Supplier Part Number 3: 595-INA2321EA/250G4; Eco-Plan: Green (RoHS & no Sb/Br); Mounting Technology: Surface Mount; Code_JEDEC: MO-153; ComponentLink1Description: Manufacturer URL; ComponentLink1URL: http://www.ti.com/; ComponentLink2Description: Datasheet; ComponentLink2URL: http://www.ti.com/general/docs/lit/getliterature.tsp?genericPartNumber=INA2321&fileType=pdf; ComponentLink3Description: Package Specification; ComponentLink3URL: http://www.ti.com/litv/pdf/mpds360
footprint TI-PW14_N (SOP, 14-Leads, Body 5.1x4.5mm, Pitch 0.65mm, IPC Medium Density)
footprint TI-PW14_L (SOP, 14-Leads, Body 5.1x4.5mm, Pitch 0.65mm, IPC High Density)
footprint TI-PW14_M (SOP, 14-Leads, Body 5.1x4.5mm, Pitch 0.65mm, IPC Low Density)
pins on every part: 4 V- (power), 11 V+ (power)
part A pins: 1 RGA (in), 2 VINA- (in), 3 VINA+ (in), 12 REFA (in), 13 VOUTA (hiz), 14 SHUTDOWN A (in)
part B pins: 5 VINB+ (in), 6 VINB- (in), 7 RGB (in), 8 SHUTDOWN B (in), 9 VOUTB (hiz), 10 REFB (in)

## INA2322EA/250
designator U?
Micropower Single-Supply CMOS Instrumentation Amplifier, -55 to 125 degC, 14-pin SOP (PW14), Green (RoHS & no Sb/Br); Manufacturer: Texas Instruments; PartNumber: INA2322EA/250; CMRR(Min)(dB): 60; Gain(V/V): 5 to 1000; Input Offset (+/-)(Max)(uV): 10000; Number of Channels: 2; Single Supply: TRUE; Slew Rate(Typ)(V/us): 0.4; SubFamily: Difference Amplifier; Vs(Max)(V): 5.5; Vs(Min)(V): 2.7; DatasheetVersion: SBOS174B; PackageVersion: 4040064-3/G, 02/2011; PackageReference: PW14; PackageDescription: 14-Pin Plastic Small Outline, Body 5 x 4.4 mm, Pitch 0.65 mm; Supplier 1: Digi-Key; Supplier Part Number 1: INA2322EATR-ND; Supplier 2: Digi-Key; Supplier Part Number 2: INA2322EACT-ND; Supplier 3: Digi-Key; Supplier Part Number 3: INA2322EADKR-ND; Supplier 4: Mouser; Supplier Part Number 4: 595-INA2322EA/250; Eco-Plan: Green (RoHS & no Sb/Br); Mounting Technology: Surface Mount; Code_JEDEC: MO-153; ComponentLink1Description: Manufacturer URL; ComponentLink1URL: http://www.ti.com/; ComponentLink2Description: Datasheet; ComponentLink2URL: http://www.ti.com/general/docs/lit/getliterature.tsp?genericPartNumber=INA2322&fileType=pdf; ComponentLink3Description: Package Specification; ComponentLink3URL: http://www.ti.com/litv/pdf/mpds360
footprint TI-PW14_N (SOP, 14-Leads, Body 5.1x4.5mm, Pitch 0.65mm, IPC Medium Density)
footprint TI-PW14_L (SOP, 14-Leads, Body 5.1x4.5mm, Pitch 0.65mm, IPC High Density)
footprint TI-PW14_M (SOP, 14-Leads, Body 5.1x4.5mm, Pitch 0.65mm, IPC Low Density)
pins on every part: 4 V- (power), 11 V+ (power)
part A pins: 1 RGA (in), 2 VINA- (in), 3 VINA+ (in), 12 REFA (in), 13 VOUTA (hiz), 14 SHUTDOWN A (in)
part B pins: 5 VINB+ (in), 6 VINB- (in), 7 RGB (in), 8 SHUTDOWN B (in), 9 VOUTB (hiz), 10 REFB (in)

## INA2322EA/250G4
designator U?
Micropower Single-Supply CMOS Instrumentation Amplifier, -55 to 125 degC, 14-pin SOP (PW14), Green (RoHS & no Sb/Br); Manufacturer: Texas Instruments; PartNumber: INA2322EA/250G4; CMRR(Min)(dB): 60; Gain(V/V): 5 to 1000; Input Offset (+/-)(Max)(uV): 10000; Number of Channels: 2; Single Supply: TRUE; Slew Rate(Typ)(V/us): 0.4; SubFamily: Difference Amplifier; Vs(Max)(V): 5.5; Vs(Min)(V): 2.7; DatasheetVersion: SBOS174B; PackageVersion: 4040064-3/G, 02/2011; PackageReference: PW14; PackageDescription: 14-Pin Plastic Small Outline, Body 5 x 4.4 mm, Pitch 0.65 mm; Supplier 1: Digi-Key; Supplier Part Number 1: INA2322EA/250G4-ND; Supplier 2: Mouser; Supplier Part Number 2: 595-INA2322EA/250G4; Eco-Plan: Green (RoHS & no Sb/Br); Mounting Technology: Surface Mount; Code_JEDEC: MO-153; ComponentLink1Description: Manufacturer URL; ComponentLink1URL: http://www.ti.com/; ComponentLink2Description: Datasheet; ComponentLink2URL: http://www.ti.com/general/docs/lit/getliterature.tsp?genericPartNumber=INA2322&fileType=pdf; ComponentLink3Description: Package Specification; ComponentLink3URL: http://www.ti.com/litv/pdf/mpds360
footprint TI-PW14_N (SOP, 14-Leads, Body 5.1x4.5mm, Pitch 0.65mm, IPC Medium Density)
footprint TI-PW14_L (SOP, 14-Leads, Body 5.1x4.5mm, Pitch 0.65mm, IPC High Density)
footprint TI-PW14_M (SOP, 14-Leads, Body 5.1x4.5mm, Pitch 0.65mm, IPC Low Density)
pins on every part: 4 V- (power), 11 V+ (power)
part A pins: 1 RGA (in), 2 VINA- (in), 3 VINA+ (in), 12 REFA (in), 13 VOUTA (hiz), 14 SHUTDOWN A (in)
part B pins: 5 VINB+ (in), 6 VINB- (in), 7 RGB (in), 8 SHUTDOWN B (in), 9 VOUTB (hiz), 10 REFB (in)

## SN0406068DR
designator U?
High-Voltage, Programmable Gain Difference Amplifier, -40 to 85 degC, 8-pin SOIC (D8), Green (RoHS & no Sb/Br); Manufacturer: Texas Instruments; PartNumber: SN0406068DR; CMRR(Min)(dB): 70; Gain(V/V): 0.1 to 100; Input Offset (+/-)(Max)(uV): 5000; Number of Channels: 1; Slew Rate(Typ)(V/us): 0.45; Vs(Max)(V): 36; Vs(Min)(V): 4.5; DatasheetVersion: SBOS109; PackageVersion: 4040047-3/M, 06/2011; PackageReference: D8; PackageDescription: 8-Pin Plastic Small Outline, Body 4.9 x 3.9 mm, Pitch 1.27 mm; Supplier 1: Digi-Key; Supplier Part Number 1: SN0406068DR-ND; Supplier 2: Newark; Supplier Part Number 2: 31M0413; Supplier 3: Mouser; Supplier Part Number 3: 595-SN0406068DR; Eco-Plan: Green (RoHS & no Sb/Br); SubFamily: Difference Amplifier; Mounting Technology: Surface Mount; Code_JEDEC: MS-012; ComponentLink1Description: Manufacturer URL; ComponentLink1URL: http://www.ti.com/; ComponentLink2Description: Datasheet; ComponentLink2URL: http://www.ti.com/general/docs/lit/getliterature.tsp?genericPartNumber=INA146&fileType=pdf; ComponentLink3Description: Package Specification; ComponentLink3URL: http://www.ti.com/litv/pdf/msoi002j
footprint TI-D8_N (SOIC, 8-Leads, Body 5x4mm, Pitch 1.27mm, IPC Medium Density)
footprint TI-D8_L (SOIC, 8-Leads, Body 5x4mm, Pitch 1.27mm, IPC High Density)
footprint TI-D8_M (SOIC, 8-Leads, Body 5x4mm, Pitch 1.27mm, IPC Low Density)
pins: 1 REF (in), 2 VIN- (in), 3 VIN+ (in), 4 V- (power), 5 RG (in), 6 VO (out), 7 V+ (power), 8 VO1 (out)

## V62/09613-01XE
designator U?
Enhanced Product Precision, Gain of 0.2 Level Translation Difference Amplifier, -55 to 125 degC, 8-pin SOP (DGK8), Green (RoHS & no Sb/Br); Manufacturer: Texas Instruments; PartNumber: V62/09613-01XE; CMRR(Min)(dB): 80; Gain(V/V): 0.2; Input Offset (+/-)(Max)(uV): 500; Number of Channels: 1; Single Supply: TRUE; Slew Rate(Typ)(V/us): 15; Vs(Max)(V): 5.5; Vs(Min)(V): 1.8; DatasheetVersion: SBOS443; PackageVersion: 4073329/E, 05/2006; PackageReference: DGK8; PackageDescription: 8-Pin Thin Small Outline, Body 3 x 3 mm, Pitch 0.65 mm; Supplier 1: Mouser; Supplier Part Number 1: 595-V62/09613-01XE; Eco-Plan: Green (RoHS & no Sb/Br); SubFamily: Difference Amplifier; Mounting Technology: Surface Mount; Code_JEDEC: MO-187; ComponentLink1Description: Manufacturer URL; ComponentLink1URL: http://www.ti.com/; ComponentLink2Description: Datasheet; ComponentLink2URL: http://www.ti.com/general/docs/lit/getliterature.tsp?genericPartNumber=INA159-EP&fileType=pdf; ComponentLink3Description: Package Specification; ComponentLink3URL: http://www.ti.com/litv/pdf/mpds028d
footprint TI-DGK8_N (SOP, 8-Leads, Body 3.1x3.1mm, Pitch 0.65mm, IPC Medium Density)
footprint TI-DGK8_L (SOP, 8-Leads, Body 3.1x3.1mm, Pitch 0.65mm, IPC High Density)
footprint TI-DGK8_M (SOP, 8-Leads, Body 3.1x3.1mm, Pitch 0.65mm, IPC Low Density)
pins: 1 REF 1 (in), 2 IN- (in), 3 IN+ (in), 4 V- (power), 5 SENSE (in), 6 OUT (out), 7 V+ (power), 8 REF 2 (in)